# EAGLE library part LPC11U24FBD48 (library nxp-arm)
MICROCONTROLLER
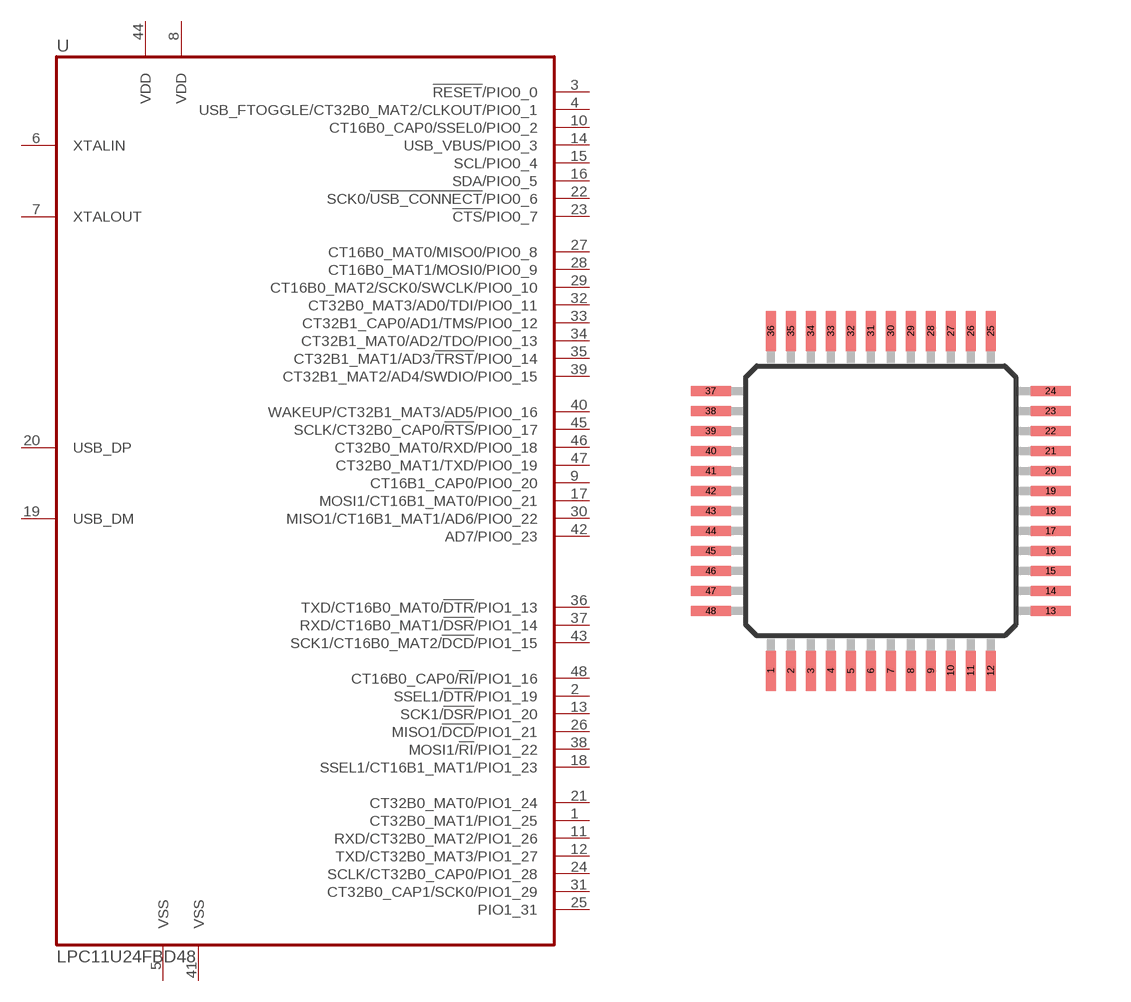
[diagram p18: symbol with the pads of LQFP48; footprint LQFP48]

Designator prefix U

## LPC11U24FBD48 (P1I: o)  [LQFP48]
1  CT32B0_MAT1/PIO1_25
2  SSEL1/!DTR!/PIO1_19
3  !RESET!/PIO0_0
4  USB_FTOGGLE/CT32B0_MAT2/CLKOUT/PIO0_1
5  VSS  pwr
6  XTALIN  pas
7  XTALOUT  pas
8  VDD  pwr
9  CT16B1_CAP0/PIO0_20
10  CT16B0_CAP0/SSEL0/PIO0_2
11  RXD/CT32B0_MAT2/PIO1_26
12  TXD/CT32B0_MAT3/PIO1_27
13  SCK1/!DSR!/PIO1_20
14  USB_VBUS/PIO0_3
15  SCL/PIO0_4
16  SDA/PIO0_5
17  MOSI1/CT16B1_MAT0/PIO0_21
18  SSEL1/CT16B1_MAT1/PIO1_23
19  USB_DM
20  USB_DP
21  CT32B0_MAT0/PIO1_24
22  SCK0/!USB_CONNECT!/PIO0_6
23  !CTS!/PIO0_7
24  SCLK/CT32B0_CAP0/PIO1_28
25  PIO1_31
26  MISO1/!DCD!/PIO1_21
27  CT16B0_MAT0/MISO0/PIO0_8
28  CT16B0_MAT1/MOSI0/PIO0_9
29  CT16B0_MAT2/SCK0/SWCLK/PIO0_10
30  MISO1/CT16B1_MAT1/AD6/PIO0_22
31  CT32B0_CAP1/SCK0/PIO1_29
32  CT32B0_MAT3/AD0/TDI/PIO0_11
33  CT32B1_CAP0/AD1/TMS/PIO0_12
34  CT32B1_MAT0/AD2/TDO/PIO0_13
35  CT32B1_MAT1/AD3/!TRST!/PIO0_14
36  TXD/CT16B0_MAT0/!DTR!/PIO1_13
37  RXD/CT16B0_MAT1/!DSR!/PIO1_14
38  MOSI1/!RI!/PIO1_22
39  CT32B1_MAT2/AD4/SWDIO/PIO0_15
40  WAKEUP/CT32B1_MAT3/AD5/PIO0_16
41  VSS  pwr
42  AD7/PIO0_23
43  SCK1/CT16B0_MAT2/!DCD!/PIO1_15
44  VDD  pwr
45  SCLK/CT32B0_CAP0/!RTS!/PIO0_17
46  CT32B0_MAT0/RXD/PIO0_18
47  CT32B0_MAT1/TXD/PIO0_19
48  CT16B0_CAP0/!RI!/PIO1_16

## Footprint LQFP48 (pad centres in mm)
LQFP48
smd 0.25 x 1: 1 -2.75,-4.25; 2 -2.25,-4.25; 3 -1.75,-4.25; 4 -1.25,-4.25; 5 -0.75,-4.25; 6 -0.25,-4.25; 7 0.25,-4.25; 8 0.75,-4.25; 9 1.25,-4.25; 10 1.75,-4.25; 11 2.25,-4.25; 12 2.75,-4.25; 25 2.75,4.25; 26 2.25,4.25; 27 1.75,4.25; 28 1.25,4.25; 29 0.75,4.25; 30 0.25,4.25; 31 -0.25,4.25; 32 -0.75,4.25; 33 -1.25,4.25; 34 -1.75,4.25; 35 -2.25,4.25; 36 -2.75,4.25
smd 1 x 0.25: 13 4.25,-2.75; 14 4.25,-2.25; 15 4.25,-1.75; 16 4.25,-1.25; 17 4.25,-0.75; 18 4.25,-0.25; 19 4.25,0.25; 20 4.25,0.75; 21 4.25,1.25; 22 4.25,1.75; 23 4.25,2.25; 24 4.25,2.75; 37 -4.25,2.75; 38 -4.25,2.25; 39 -4.25,1.75; 40 -4.25,1.25; 41 -4.25,0.75; 42 -4.25,0.25; 43 -4.25,-0.25; 44 -4.25,-0.75; 45 -4.25,-1.25; 46 -4.25,-1.75; 47 -4.25,-2.25; 48 -4.25,-2.75